# Altium schematic symbol library Trans_ON_Semiconductor_BSS138_eec.SchLib: 1 symbol
Pins are listed as number, name and electrical type; pins without a type are passive.

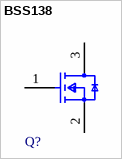
[diagram p0: symbol BSS138]

## BSS138
designator Q?  (value not drawn)
pins: 1 G, 2 S, 3 D